# EAGLE library part INA185A4IDRLT (library Birdhouse)
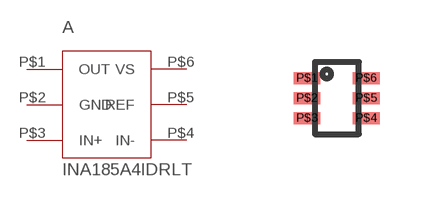
[diagram p1: symbol with the pads of SOT-6; footprint SOT-6]

Designator prefix A

## INA185A4IDRLT  [SOT-6]
P$1  OUT
P$2  GND
P$3  IN+
P$4  IN-
P$5  REF
P$6  VS

## Footprint SOT-6 (pad centres in mm)
smd 0.67 x 0.3: P$1 0,0; P$2 0,-0.5; P$3 0,-1; P$4 1.48,-1; P$5 1.48,-0.5; P$6 1.48,0